# Altium footprint library UDAC.PcbLib: 25 footprints (part 2 of 2)
Each footprint in its own frame and in the unit in brackets; x right, y up, seen from the top. Pads: shape width x height; smd on the part's side, far side on the other; paste and mask are expansions set on the pad; w line width, h text height; cw(c..) or ccw(c..) is an arc to the next point about the centre after c.
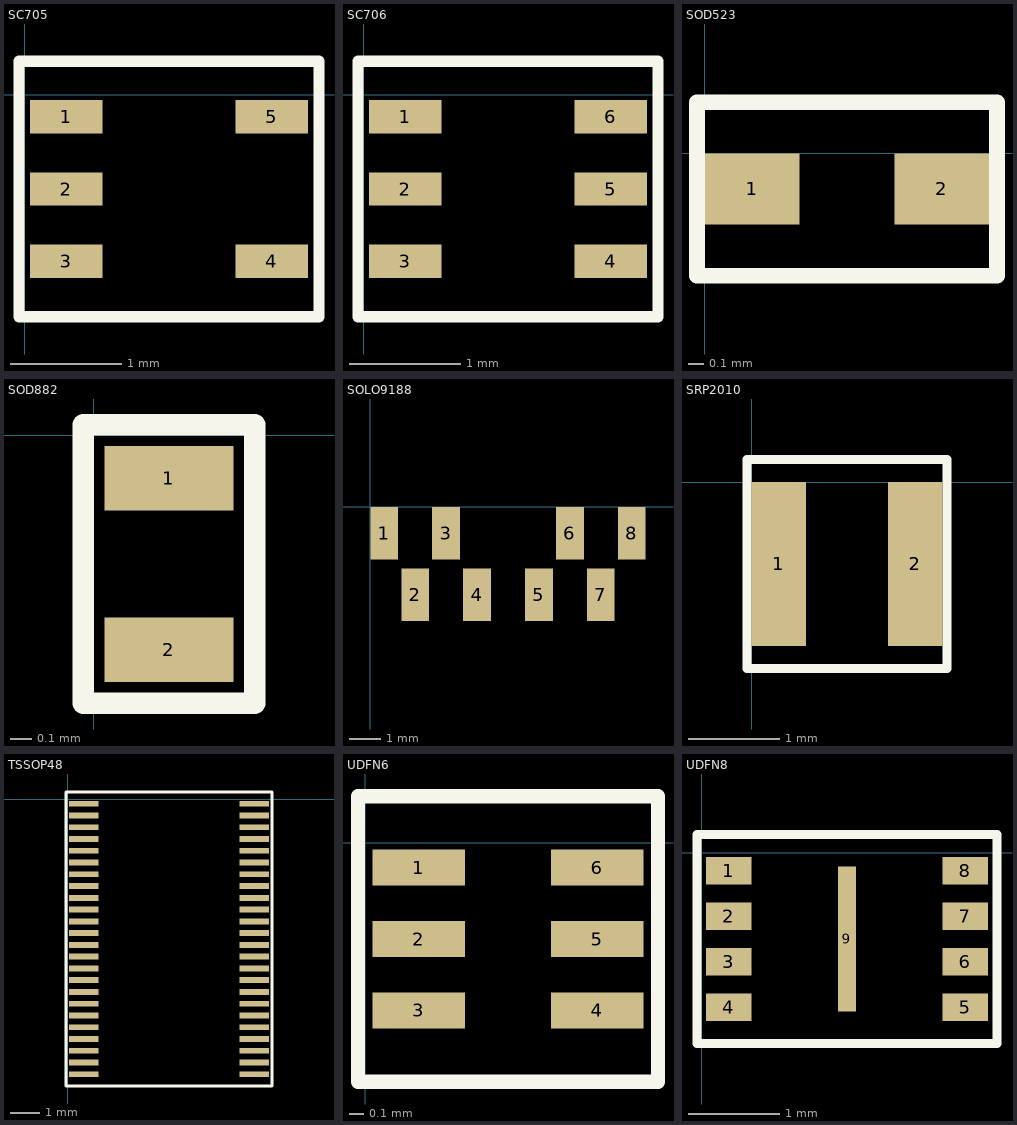
[diagram p1: the footprints below, top view; thin cyan lines are the x and y axes]

## SC705 [mm] "SC70-5 2*2.2mm"
height 1.1
pads (5):
  rect 0.65x0.3 smd mask+0.05: 1(0.375,-0.2) 2(0.375,-0.85) 3(0.375,-1.5) 4(2.225,-1.5) 5(2.225,-0.2)
Top Overlay:
  lines w0.1: -0.05,-2 2.65,-2 2.65,0.3 -0.05,0.3 -0.05,-2

## SC706 [mm] "SC70-6 2*2.2mm"
height 1.1
pads (6):
  rect 0.65x0.3 smd mask+0.05: 1(0.375,-0.2) 2(0.375,-0.85) 3(0.375,-1.5) 4(2.225,-1.5) 5(2.225,-0.85) 6(2.225,-0.2)
Top Overlay:
  lines w0.1: -0.05,-2 -0.05,0.3 2.65,0.3 2.65,-2 -0.05,-2

## SOD523 [mm] "SOD523"
height 0.8
pads (2):
  rect 0.6x0.45 smd mask+0: 1(0.3,-0.225) 2(1.5,-0.225)
Top Overlay:
  lines w0.1: -0.05,-0.775 1.85,-0.775 1.85,0.325 -0.05,0.325 -0.05,-0.775

## SOD882 [mm] "SOD882"
height 0.5
pads (2):
  rect 0.6x0.3 smd mask+0.05: 1(0.35,-0.2) 2(0.35,-1)
Top Overlay:
  lines w0.1: -0.05,-1.25 -0.05,0.05 0.75,0.05 0.75,-1.25 -0.05,-1.25

## SOLO9188 [mm] "SOLO9188"
pads (8):
  rect 0.9x1.7 smd mask+0: 1(0.45,-0.85) 2(1.45,-2.85) 3(2.45,-0.85) 4(3.45,-2.85) 5(5.45,-2.85) 6(6.45,-0.85) 7(7.45,-2.85) 8(8.45,-0.85)
Top Solder:
  rectangle: -0.2,-3.9 9.1,0.2

## SRP2010 [mm] "SRP2010"
height 1
pads (2):
  rect 0.6x1.8 smd mask+0: 1(0.3,-0.9) 2(1.8,-0.9)
Top Overlay:
  lines w0.1: -0.05,-2.05 2.15,-2.05 2.15,0.25 -0.05,0.25 -0.05,-2.05

## TSSOP48 [mm] "TSSOP48 6.4*9.7mm"
height 1.2
pads (48):
  rect 1x0.2 smd mask+0.05: 1(0.55,-0.15) 2(0.55,-0.55) 3(0.55,-0.95) 4(0.55,-1.35) 5(0.55,-1.75) 6(0.55,-2.15) 7(0.55,-2.55) 8(0.55,-2.95) 9(0.55,-3.35) 10(0.55,-3.75) 11(0.55,-4.15) 12(0.55,-4.55) 13(0.55,-4.95) 14(0.55,-5.35) 15(0.55,-5.75) 16(0.55,-6.15) 17(0.55,-6.55) 18(0.55,-6.95) 19(0.55,-7.35) 20(0.55,-7.75) 21(0.55,-8.15) 22(0.55,-8.55) 23(0.55,-8.95) 24(0.55,-9.35) 25(6.35,-9.35) 26(6.35,-8.95) 27(6.35,-8.55) 28(6.35,-8.15) 29(6.35,-7.75) 30(6.35,-7.35) 31(6.35,-6.95) 32(6.35,-6.55) 33(6.35,-6.15) 34(6.35,-5.75) 35(6.35,-5.35) 36(6.35,-4.95) 37(6.35,-4.55) 38(6.35,-4.15) 39(6.35,-3.75) 40(6.35,-3.35) 41(6.35,-2.95) 42(6.35,-2.55) 43(6.35,-2.15) 44(6.35,-1.75) 45(6.35,-1.35) 46(6.35,-0.95) 47(6.35,-0.55) 48(6.35,-0.15)
Top Overlay:
  lines w0.1: -0.05,-9.75 -0.05,0.25 6.95,0.25 6.95,-9.75 -0.05,-9.75

## UDFN6 [mm] "UDFN6 1.5*1.7mm"
height 0.8
pads (6):
  rect 0.65x0.25 smd mask+0.05: 1(0.375,-0.175) 2(0.375,-0.675) 3(0.375,-1.175) 4(1.625,-1.175) 5(1.625,-0.675) 6(1.625,-0.175)
Top Overlay:
  lines w0.1: -0.05,-1.675 -0.05,0.325 2.05,0.325 2.05,-1.675 -0.05,-1.675

## UDFN8 [mm] "USON 2*3mm"
height 0.6
pads (9):
  rect 0.5x0.3 smd mask+0.05: 1(0.3,-0.2) 2(0.3,-0.7) 3(0.3,-1.2) 4(0.3,-1.7) 5(2.9,-1.7) 6(2.9,-1.2) 7(2.9,-0.7) 8(2.9,-0.2)
  rect 0.2x1.6 smd mask+0: 9(1.6,-0.95)
Top Overlay:
  lines w0.1: -0.05,-2.1 -0.05,0.2 3.25,0.2 3.25,-2.1 -0.05,-2.1